# Altium footprint library LMH3401IRMST.PcbLib: 1 footprints
Each footprint in its own frame and in the unit in brackets; x right, y up, seen from the top. Pads: shape width x height; smd on the part's side, far side on the other; paste and mask are expansions set on the pad; w line width, h text height; cw(c..) or ccw(c..) is an arc to the next point about the centre after c.
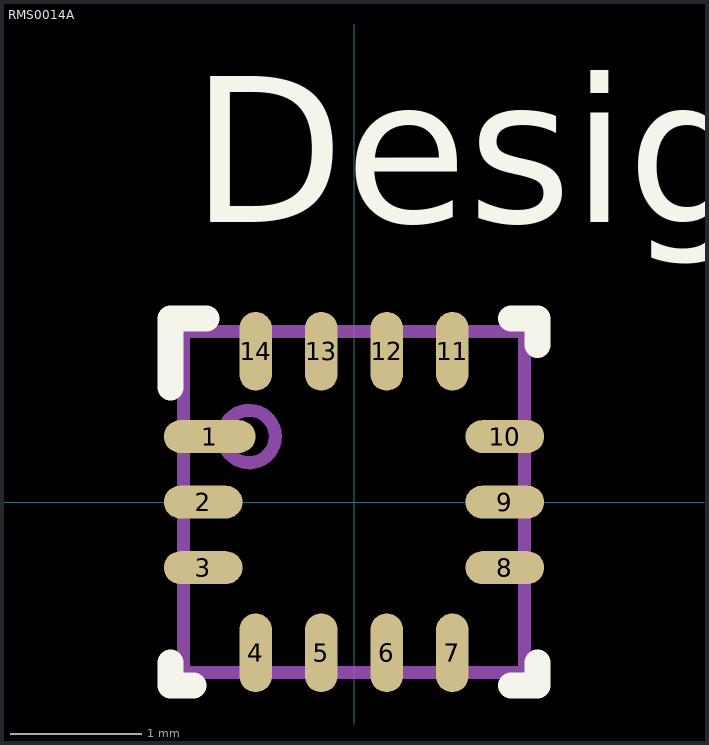
[diagram p0: the footprint, top view; thin cyan lines are the x and y axes]

## RMS0014A [mm]
pads (14):
  oval 0.7x0.25 smd paste+0 mask+0.051: 1(-1.1,0.5)
  oval 0.6x0.25 smd paste+0 mask+0.051: 2(-1.15,0) 3(-1.15,-0.5) 8(1.15,-0.5) 9(1.15,0) 10(1.15,0.5)
  oval 0.25x0.6 smd paste+0 mask+0.051: 4(-0.75,-1.15) 5(-0.25,-1.15) 6(0.25,-1.15) 7(0.75,-1.15) 11(0.75,1.15) 12(0.25,1.15) 13(-0.25,1.15) 14(-0.75,1.15)
Top Overlay:
  lines w0.2: -1.4,-1.225 -1.4,-1.4 -1.225,-1.4 ; -1.4,0.875 -1.4,1.4 -1.125,1.4 ; 1.2,-1.4 1.4,-1.4 1.4,-1.225 ; 1.2,1.4 1.4,1.4 1.4,1.2
  text "Designator725" at -1.245,2.134 h1.27
Mechanical 13:
  circle w0.1: c-0.8,0.5 r0.2
  lines w0.1: -1.3,-1.3 -1.3,1.3 1.3,1.3 1.3,-1.3 -1.3,-1.3
  text ".Designator" at -1.15,-1.135 h1.27
3D body: height 0.25, standoff 0, extent 0,0 0.254,0.254